# EAGLE library part CON3X2 (library SW_Connectors)
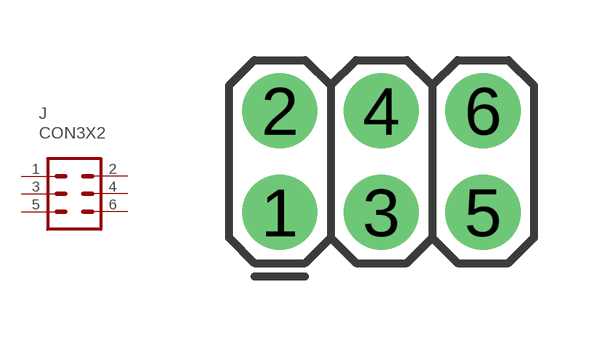
[diagram p6: symbol with the pads of 2X3; footprint 2X3]

Designator prefix J

## CON3X2FEMALE (CATEGORY: Connectors; DESCRIPTION: Connector Header Through Hole 6 position 0.100" (2.54mm); MFGS: Sullins Connector Solutions; MPNS: PRPC003DAAN-RC; PACKAGE: TH; PART_NUMBER: PRPC003DAAN-RC; SW_PART_NUMBER: SW0007805)  [2X3]
1  1
2  2
3  3
4  4
5  5
6  6

## Footprint 2X3 (pad centres in mm)
Plated Through Hole - 2x3 Specifications: Pin count:6 Pin pitch:0.1" Example device(s): CONN_03x2
drill 1.016 pad 1.88: 1 0,0; 2 0,2.54; 3 2.54,0; 4 2.54,2.54; 5 5.08,0; 6 5.08,2.54